# Altium footprint library SOT143-4.PcbLib: 1 footprints
Each footprint in its own frame and in the unit in brackets; x right, y up, seen from the top. Pads: shape width x height; smd on the part's side, far side on the other; paste and mask are expansions set on the pad; w line width, h text height; cw(c..) or ccw(c..) is an arc to the next point about the centre after c.
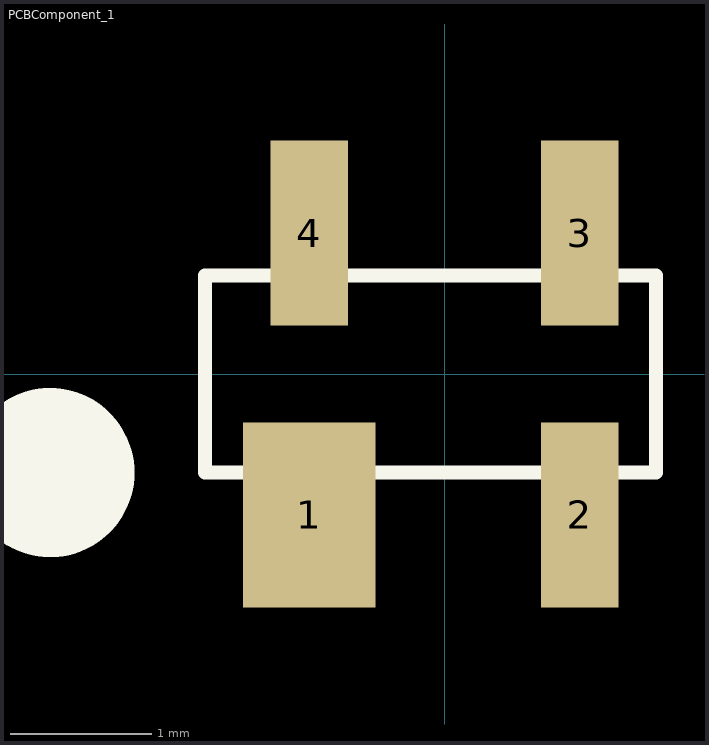
[diagram p0: the footprint, top view; thin cyan lines are the x and y axes]

## PCBComponent_1 [mm]
pads (4):
  rect 0.94x1.31 smd: 1(-0.96,-1)
  rect 0.55x1.31 smd: 2(0.96,-1) 3(0.96,1) 4(-0.96,1)
Top Overlay:
  circle w1: c-2.8,-0.7 r0.1
  lines w0.1: -1.7,-0.7 -1.7,0.7 1.5,0.7 1.5,-0.7 -1.7,-0.7